# EAGLE library part AD8041 (library Traficon)
AD8041AR In Traficon stock en ook verkrijgbaar bij Farnell: AD8041ARZ, ordercode: 1311728 Drawer: CT
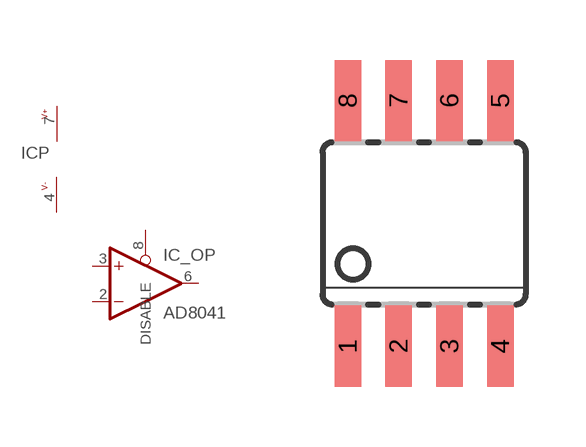
[diagram p146: symbol with the pads of SOIC08; footprint SOIC08]

Designator prefix IC; gates P=PWR+- _OP=OPAMP_DISABLE

## AD8041AR  [SOIC08]
2  _OP:-IN  in
3  _OP:+IN  in
4  P:V-  pas
6  _OP:OUT  out
7  P:V+  pas
8  _OP:DISABLE  in

## Footprint SOIC08 (pad centres in mm)
Small Outline Package
smd 0.66 x 2.032: 1 -1.905,-3.073; 2 -0.635,-3.073; 3 0.635,-3.073; 4 1.905,-3.073; 5 1.905,3.073; 6 0.635,3.073; 7 -0.635,3.073; 8 -1.905,3.073